# EAGLE library part 615006141121 (library Eagle_WR-MJ (rev23b))
WR-MJ Modular Jack Horizontal Plastic 6PxC Tab Up KIND PROPERTIES Quality Class:500 Mating cycles General Information Operating Temperature:-40 up to +85 °C Compliance: RoHS Electrical Properties IR 1:1.5A Working Voltage:120V (AC) Withstanding Voltage:1000V (AC) Contact Resistance:20mΩ RISO:500 MΩ Material Properties Insulator MateriaL:PBT Insulator Flammability Rating:UL94 V-0 Color:Black Contact Material Copper Alloy Contact Plating:Gold Contact Type:Stamped Packaging Properties Packaging:Tray <https://www.we-online.com/catalog/media/o33139v209%20Family_WR-MJ_61500x141121.jpg> Details see: https://www.we-online.com/catalog/en/MJ_HORIZONTAL_PLASTIC_6PXC_TAB_DOWN/ Updated by Yingchun,Shan 2020-01-07 2020 (C) Würth Elektronik
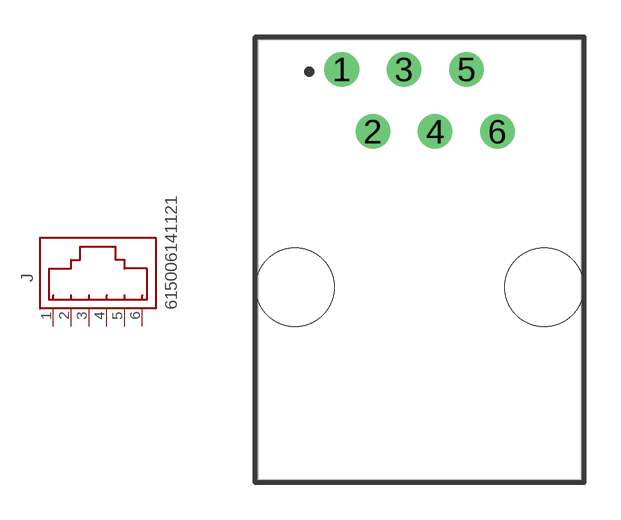
[diagram p8: symbol with the pads of 615006141121; footprint 615006141121]

Designator prefix J

## 615006141121 (DATASHEET-URL: https://www.we-online.com/redexpert/spec/615006141121?ae; MOUNT: THT; PART-NUMBER: 615006141121; TYPE: Horizontal; VALUE: 615006141121; XPXC: 6P6C)  [615006141121]
1  6  pas
2  5  pas
3  4  pas
4  3  pas
5  2  pas
6  1  pas

## Footprint 615006141121 (pad centres in mm)
WR-MJ Horizontal Plastic 6P6C Modular Jack Tab Down, 6 Pins
drill 0.9: 1 -3.175,7.77; 2 -1.905,5.23; 3 -0.635,7.77; 4 0.635,5.23; 5 1.905,7.77; 6 3.175,5.23
hole 3.2 at -5.08,-1.12
hole 3.2 at 5.08,-1.12